# Altium footprint library CBCM IC.PcbLib: 7 footprints
Each footprint in its own frame and in the unit in brackets; x right, y up, seen from the top. Pads: shape width x height; smd on the part's side, far side on the other; paste and mask are expansions set on the pad; w line width, h text height; cw(c..) or ccw(c..) is an arc to the next point about the centre after c.
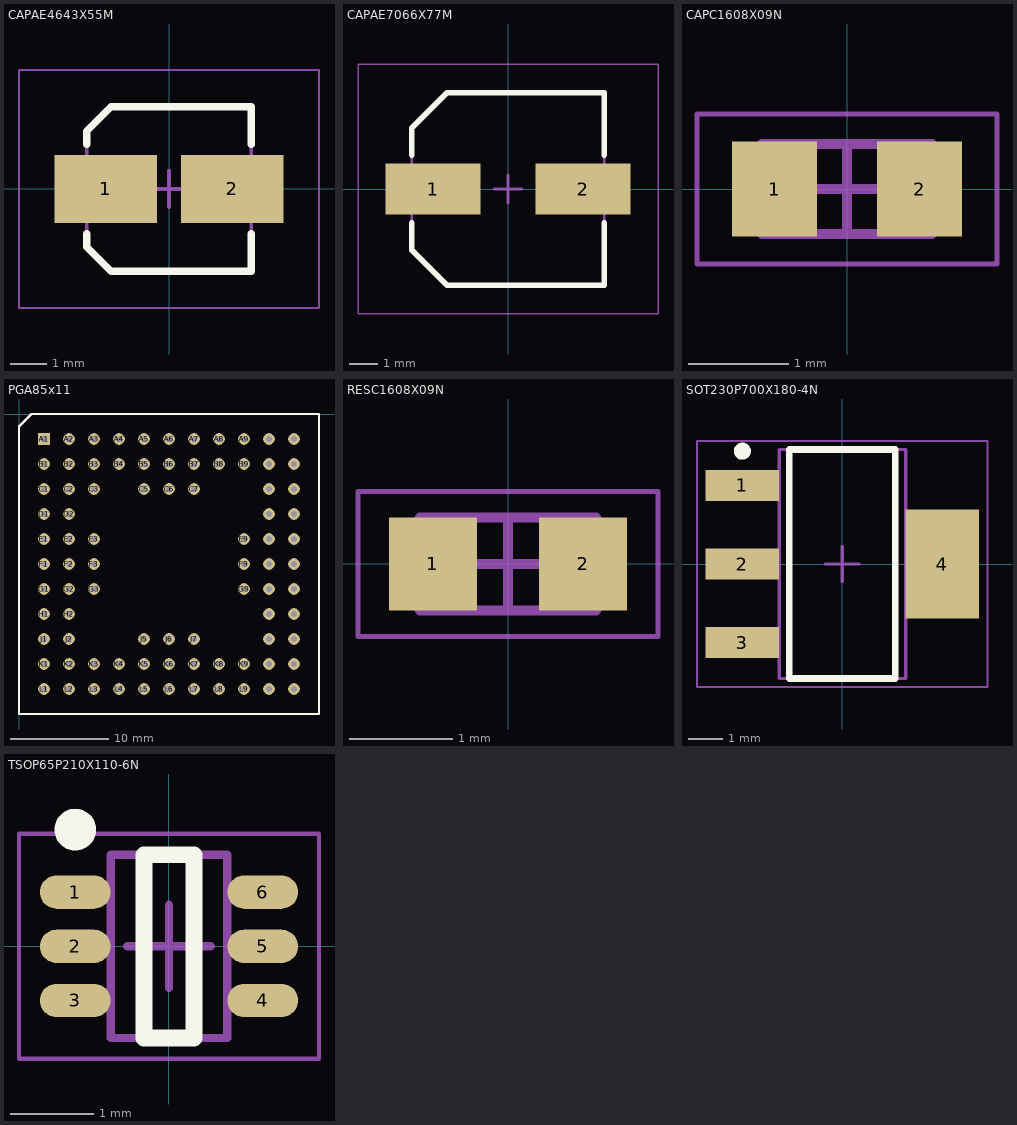
[diagram p0: the footprints below, top view; thin cyan lines are the x and y axes]

## CAPAE4643X55M [mm] "Aluminum Electrolytic Capacitor, Body 4.30x4.30x5.50mm, IPC Low Density"
height 5.5
pads (2):
  rect 2.8x1.85 smd: 1(-1.725,0) 2(1.725,0)
Top Overlay:
  lines w0.2: -2.25,-1.225 -2.25,-1.587 -1.587,-2.25 2.25,-2.25 2.25,-1.225 ; -2.25,1.225 -2.25,1.587 -1.587,2.25 2.25,2.25 2.25,1.225
Mechanical 13:
  lines w0.1: -2.25,-1.587 -1.587,-2.25 2.25,-2.25 2.25,2.25 -1.587,2.25 -2.25,1.587 -2.25,-1.587
Mechanical 15:
  lines w0.05: -4.1,-3.25 -4.1,3.25 4.1,3.25 4.1,-3.25 -4.1,-3.25
  lines w0.1: -0.5,0 0.5,0 ; 0,-0.5 0,0.5
3D body: height 1.84, standoff 0, extent -2.25,-2.25 2.25,2.25
3D body: height 5.5, standoff 0, extent -2.25,-2.25 2.25,2.243

## CAPAE7066X77M [mm] "Aluminum Electrolytic Capacitor, Body 6.60x6.60x7.70mm, IPC Low Density"
height 7.7
pads (2):
  rect 3.35x1.8 smd: 1(-2.65,0) 2(2.65,0)
Top Overlay:
  lines w0.2: -3.4,-1.2 -3.4,-2.15 -2.15,-3.4 3.4,-3.4 3.4,-1.2 ; -3.4,1.2 -3.4,2.15 -2.15,3.4 3.4,3.4 3.4,1.2
Mechanical 13:
  lines w0.1: -3.4,-2.15 -3.4,2.15 -2.15,3.4 3.4,3.4 3.4,-3.4 -2.15,-3.4 -3.4,-2.15
Mechanical 15:
  lines w0.05: -5.3,-4.4 5.3,-4.4 5.3,4.4 -5.3,4.4 -5.3,-4.4
  lines w0.1: -0.5,0 0.5,0 ; 0,-0.5 0,0.5
3D body "CAPAE7066X77M.step": height 7.7, standoff 0, extent -3.475,-3.4 3.475,3.4

## CAPC1608X09N [mm] "Chip Capacitor, 2-Leads, Body 1.60x0.80mm, IPC Medium Density"
height 0.9
pads (2):
  rect 0.85x0.95 smd: 1(-0.725,0) 2(0.725,0)
Mechanical 13:
  lines w0.1: -0.85,-0.45 -0.85,0.45 0.85,0.45 0.85,-0.45 -0.85,-0.45
Mechanical 15:
  lines w0.05: -1.5,-0.75 -1.5,0.75 1.5,0.75 1.5,-0.75 -1.5,-0.75
  lines w0.1: -0.45,0 0.45,0 ; 0,-0.45 0,0.45
3D body "CAPC1608X09N.step": height 0.9, standoff 0, extent -0.85,-0.45 0.85,0.45

## PGA85x11 [mm]
pads (85):
  rect 1.2x1.2 hole 0.6: A1(2.54,-2.54)
  round 1.2 hole 0.6: A2(5.08,-2.54) A3(7.62,-2.54) A4(10.16,-2.54) A5(12.7,-2.54) A6(15.24,-2.54) A7(17.78,-2.54) A8(20.32,-2.54) A9(22.86,-2.54) A10(25.4,-2.54) A11(27.94,-2.54) B1(2.54,-5.08) B2(5.08,-5.08) B3(7.62,-5.08) B4(10.16,-5.08) B5(12.7,-5.08) B6(15.24,-5.08) B7(17.78,-5.08) B8(20.32,-5.08) B9(22.86,-5.08) B10(25.4,-5.08) B11(27.94,-5.08) C1(2.54,-7.62) C2(5.08,-7.62) C3(7.62,-7.62) C5(12.7,-7.62) C6(15.24,-7.62) C7(17.78,-7.62) C10(25.4,-7.62) C11(27.94,-7.62) D1(2.54,-10.16) D2(5.08,-10.16) D10(25.4,-10.16) D11(27.94,-10.16) E1(2.54,-12.7) E2(5.08,-12.7) E3(7.62,-12.7) E9(22.86,-12.7) E10(25.4,-12.7) E11(27.94,-12.7) F1(2.54,-15.24) F2(5.08,-15.24) F3(7.62,-15.24) F9(22.86,-15.24) F10(25.4,-15.24) F11(27.94,-15.24) G1(2.54,-17.78) G2(5.08,-17.78) G3(7.62,-17.78) G9(22.86,-17.78) G10(25.4,-17.78) G11(27.94,-17.78) H1(2.54,-20.32) H2(5.08,-20.32) H10(25.4,-20.32) H11(27.94,-20.32) J1(2.54,-22.86) J2(5.08,-22.86) J5(12.7,-22.86) J6(15.24,-22.86) J7(17.78,-22.86) J10(25.4,-22.86) J11(27.94,-22.86) K1(2.54,-25.4) K2(5.08,-25.4) K3(7.62,-25.4) K4(10.16,-25.4) K5(12.7,-25.4) K6(15.24,-25.4) K7(17.78,-25.4) K8(20.32,-25.4) K9(22.86,-25.4) K10(25.4,-25.4) K11(27.94,-25.4) L1(2.54,-27.94) L2(5.08,-27.94) L3(7.62,-27.94) L4(10.16,-27.94) L5(12.7,-27.94) L6(15.24,-27.94) L7(17.78,-27.94) L8(20.32,-27.94) L9(22.86,-27.94) L10(25.4,-27.94) L11(27.94,-27.94)
Top Overlay:
  lines w0.2: 0,-30.48 0,-1.27 1.27,0 30.48,0 30.48,-30.48 0,-30.48

## RESC1608X09N [mm] "Chip Resistor, 2-Leads, Body 1.60x0.80mm, IPC Medium Density"
height 0.9
pads (2):
  rect 0.85x0.9 smd: 1(-0.725,0) 2(0.725,0)
Mechanical 13:
  lines w0.1: -0.85,-0.45 -0.85,0.45 0.85,0.45 0.85,-0.45 -0.85,-0.45
Mechanical 15:
  lines w0.05: -1.45,-0.7 -1.45,0.7 1.45,0.7 1.45,-0.7 -1.45,-0.7
  lines w0.1: -0.45,0 0.45,0 ; 0,-0.45 0,0.45
3D body: height 0.9, standoff 0, extent -0.45,-0.45 0.45,0.45
3D body: height 0.9, standoff 0, extent -0.85,-0.45 -0.45,0.45
3D body: height 0.9, standoff 0, extent 0.45,-0.45 0.85,0.45

## SOT230P700X180-4N [mm] "SOT223, 4-Leads, Body 6.50x7.00mm (avg), Pitch 2.30mm, IPC Medium Density"
height 1.8
pads (4):
  rect 2.15x0.9 smd: 1(-2.925,2.3) 2(-2.925,0) 3(-2.925,-2.3)
  rect 2.15x3.2 smd: 4(2.925,0)
Top Overlay:
  circle w0.25: c-2.925,3.3 r0.125
  lines w0.2: -1.55,-3.35 -1.55,3.35 1.55,3.35 1.55,-3.35 -1.55,-3.35
Mechanical 13:
  lines w0.1: -1.85,-3.35 -1.85,3.35 1.85,3.35 1.85,-3.35 -1.85,-3.35
Mechanical 15:
  lines w0.05: -4.25,-3.6 -4.25,3.6 4.25,3.6 4.25,-3.6 -4.25,-3.6
  lines w0.1: -0.5,0 0.5,0 ; 0,-0.5 0,0.5
3D body "SOT230P700X180-4N.step": height 1.8, standoff 0, extent -3.5,-3.35 3.5,3.35

## TSOP65P210X110-6N [mm] "TSOP, 6-Leads, Body 2.00x1.25mm, Pitch 0.65mm, IPC Medium Density"
height 1.1
pads (6):
  oval 0.85x0.4 smd: 1(-1.125,0.65) 2(-1.125,0) 3(-1.125,-0.65) 4(1.125,-0.65) 5(1.125,0) 6(1.125,0.65)
Top Overlay:
  circle w0.25: c-1.125,1.4 r0.125
  lines w0.2: -0.3,-1.1 0.3,-1.1 0.3,1.1 -0.3,1.1 -0.3,-1.1
Mechanical 13:
  lines w0.1: -0.7,-1.1 0.7,-1.1 0.7,1.1 -0.7,1.1 -0.7,-1.1
Mechanical 15:
  lines w0.05: -1.8,-1.35 1.8,-1.35 1.8,1.35 -1.8,1.35 -1.8,-1.35
  lines w0.1: -0.5,0 0.5,0 ; 0,-0.5 0,0.5
3D body "TSOP65P210X110-6N.step": height 1.1, standoff 0.1, extent -0.85,-1.1 0.85,1.1